# Altium integrated library 4.7uf_50v electrolytic cap.IntLib: 1 symbol
Pins are listed as number, name and electrical type; pins without a type are passive.

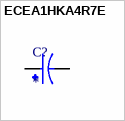
[diagram p0: symbol ECEA1HKA4R7E]

## ECEA1HKA4R7E
designator C?
Aluminum Electrolytic Capacitors, KA-A Series, 4.7uF +/- 20%, 50V, Radial lead type(4x7mm); MP: ECE-A1HKA4R7E; MF: Panasonic; SnapEDA_Link: https://www.snapeda.com/parts/ECE-A1HKA4R7E/Panasonic/view-part/?ref=snap; Availability: Not in stock; Check_prices: https://www.snapeda.com/parts/ECE-A1HKA4R7E/Panasonic/view-part/?ref=eda; Package: RADIAL-2 Panasonic; Price: None; Value: *
footprint CAPPRD500W45D400H700
pins: N, P